# EAGLE library part 22-23-2091 (library EW_Connectors)
.100" (2.54mm) Center Header - 9 Pin
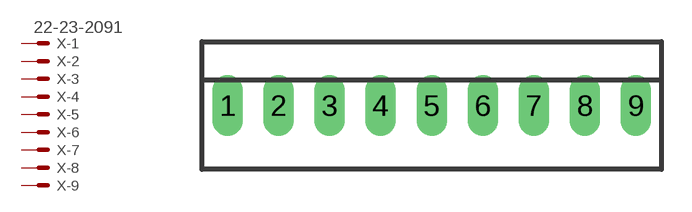
[diagram p87: symbol with the pads of 22-23-2091; footprint 22-23-2091]

Designator prefix X; gates -1=MV-4 -2=M-15 -3=M-15 -4=M-15 -5=M-15 -6=M-15 -7=M-15 -8=M-15 -9=M-15

## 22-23-2091 (MF: MOLEX; MPN: 22-23-2091; OC_FARNELL: 1756827; OC_NEWARK: 56H0450)  [22-23-2091]
1  -1:S  pas
2  -2:S  pas
3  -3:S  pas
4  -4:S  pas
5  -5:S  pas
6  -6:S  pas
7  -7:S  pas
8  -8:S  pas
9  -9:S  pas

## Footprint 22-23-2091 (pad centres in mm)
KK® 254 Solid Header, Vertical, with Friction Lock, 9 Circuits, Tin (Sn) Plating Datasheet <http://www.molex.com/pdm_docs/sd/022232091_sd.pdf>
drill 1 long: 1 -10.16,0; 2 -7.62,0; 3 -5.08,0; 4 -2.54,0; 5 0,0; 6 2.54,0; 7 5.08,0; 8 7.62,0; 9 10.16,0